# Altium footprint library CAP_0402.PcbLib: 1 footprints
Each footprint in its own frame and in the unit in brackets; x right, y up, seen from the top. Pads: shape width x height; smd on the part's side, far side on the other; paste and mask are expansions set on the pad; w line width, h text height; cw(c..) or ccw(c..) is an arc to the next point about the centre after c.
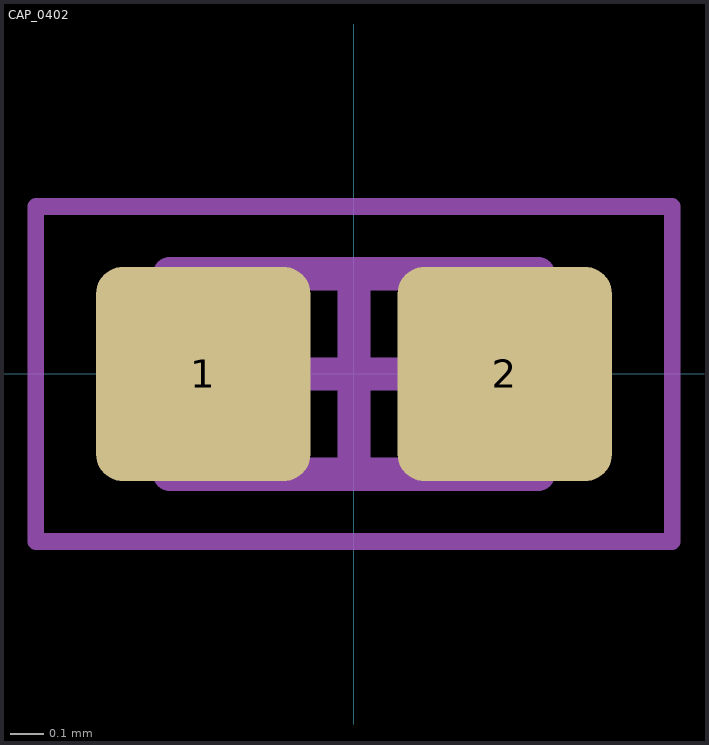
[diagram p0: the footprint, top view; thin cyan lines are the x and y axes]

## CAP_0402 [mm]
pads (2):
  rrect25% 0.64x0.64 smd: 1(-0.45,0) 2(0.45,0)
Mechanical 13:
  lines w0.1: -0.55,-0.3 -0.55,0.3 0.55,0.3 0.55,-0.3 -0.55,-0.3
Mechanical 15:
  lines w0.05: -0.95,-0.5 -0.95,0.5 0.95,0.5 0.95,-0.5 -0.95,-0.5
  lines w0.1: -0.3,0 0.3,0 ; 0,-0.3 0,0.3
3D body "CAP_0402_FW.step": height 0.55, standoff 0, extent -0.55,-0.3 0.55,0.3